# EAGLE library part DF13-10 (library Taylor)
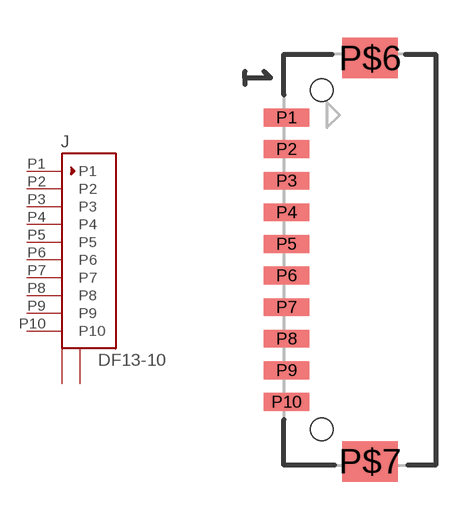
[diagram p27: symbol with the pads of DF13-10; footprint DF13-10]

Designator prefix J

## DF13-10  [DF13-10]
P1  P1
P2  P2
P3  P3
P4  P4
P5  P5
P6  P6
P7  P7
P8  P8
P9  P9
P10  P10
P$6  P$1
P$7  P$2

## Footprint DF13-10 (pad centres in mm)
smd 1.8 x 0.7: P1 -0.9,5.625; P2 -0.9,4.375; P3 -0.9,3.125; P4 -0.9,1.875; P5 -0.9,0.625; P6 -0.9,-0.625; P7 -0.9,-1.875; P8 -0.9,-3.125; P9 -0.9,-4.375; P10 -0.9,-5.625
smd 2.2 x 1.6: P$6 2.4,7.975; P$7 2.4,-7.975
hole 0.9 at 0.5,6.7
hole 0.9 at 0.5,-6.7